# EAGLE library part GREEN_PLUG_90_6 (library Green_plug_90)
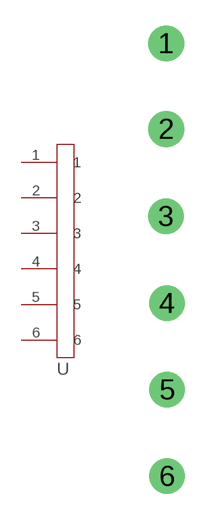
[diagram p0: symbol with the pads of GREEN_PLUG_90_6; footprint GREEN_PLUG_90_6]

Designator prefix -

## GREEN_PLUG_90_6  [GREEN_PLUG_90_6]
1  1  pas
2  2  pas
3  3  pas
4  4  pas
5  5  pas
6  6  pas

## Footprint GREEN_PLUG_90_6 (pad centres in mm)
drill 1.4 pad 2: 1 -0.044,12.547; 2 -0.042,7.515; 3 -0.055,2.39; 4 0.012,-2.72; 5 0.012,-7.8; 6 0.012,-12.88